# Altium schematic symbol library flash_memories.SchLib: 4 symbols
Pins are listed as number, name and electrical type; pins without a type are passive.

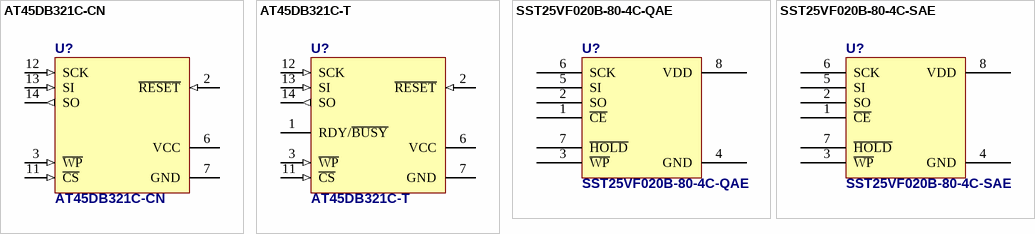
[diagram p0: symbols AT45DB321C-CN to SST25VF020B-80-4C-SAE]

## AT45DB321C-CN
designator U?
32-megabit 2.7V DataFlash; Published: 06-Mar-2006; PackageReference: CASON-8
footprint CASON-8 (CASON; 8-pad; Body Width 8 mm; Body Lenght 6 mm; Pitch 1.27 mm); pin to pad 2>3 3>5 11>4 12>2 13>1 14>8
pins: 2 ~{RESET} (in), 3 ~{WP} (in), 6 VCC (power), 7 GND (power), 11 ~{CS} (in), 12 SCK (in), 13 SI (in), 14 SO (out)

## AT45DB321C-T
designator U?
32-megabit 2.7V DataFlash; Published: 06-Mar-2006; PackageReference: TSOP28
footprint TSOP28 (28-lead (8 x 13.4 mm) Plastic Thin Small Outline  Package)
pins: 1 RDY/~{BUSY} (oc), 2 ~{RESET} (in), 3 ~{WP} (in), 6 VCC (power), 7 GND (power), 11 ~{CS} (in), 12 SCK (in), 13 SI (in), 14 SO (out)

## SST25VF020B-80-4C-QAE
designator U?
2 Mbit SPI Serial Flash, WSON Package
pins: 1 ~{CE}, 2 SO, 3 ~{WP}, 4 GND, 5 SI, 6 SCK, 7 ~{HOLD}, 8 VDD

## SST25VF020B-80-4C-SAE
designator U?
2 Mbit SPI Serial Flash, SO8 Package
footprint SO8 (Small Outline; 8 Leads; Body Width 3.7 mm; Pitch 1.27 mm)
pins: 1 ~{CE}, 2 SO, 3 ~{WP}, 4 GND, 5 SI, 6 SCK, 7 ~{HOLD}, 8 VDD